# Altium schematic symbol library KeyBored_PCB_ThomasLajoie_2025.SCHLIB: 6 symbols
Pins are listed as number, name and electrical type; pins without a type are passive.

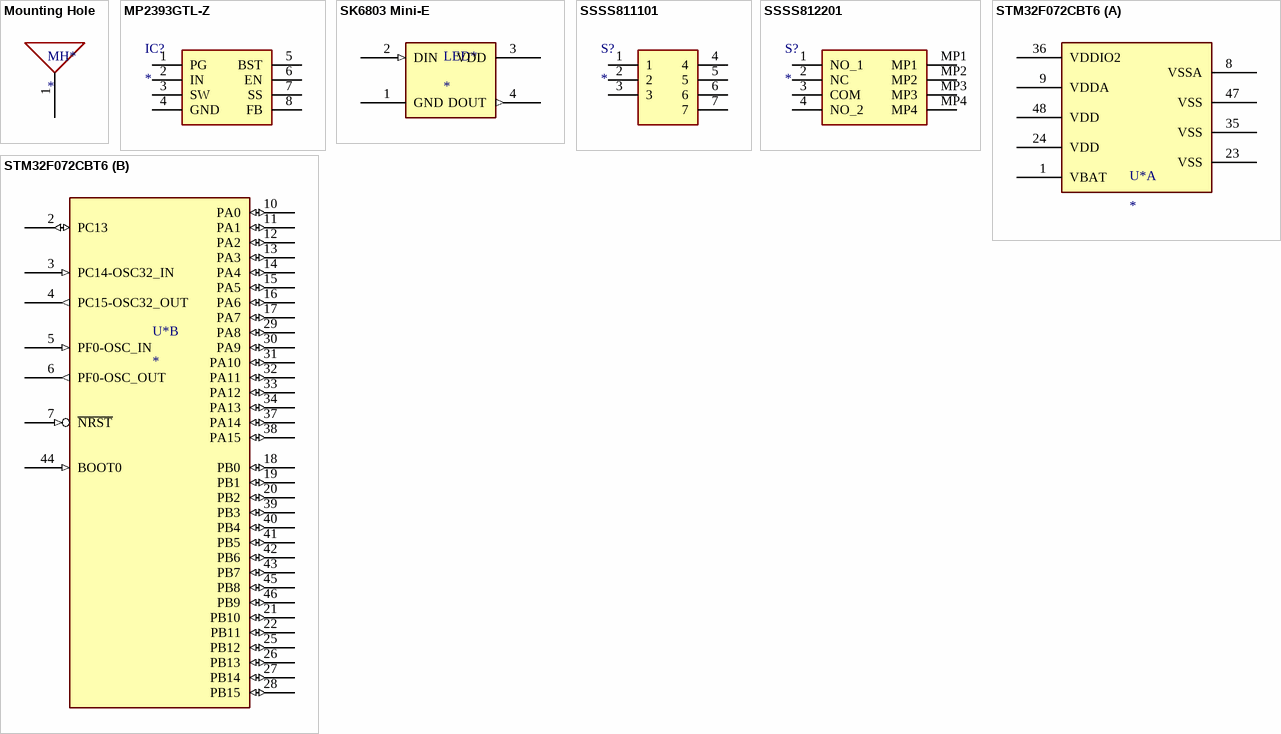
[diagram p0: symbols Mounting Hole to STM32F072CBT6]

## Mounting Hole
designator MH*
pins: 1 (power)

## MP2393GTL-Z
designator IC?
Integrated Circuit; Manufacturer_Name: Monolithic Power Systems (MPS); Manufacturer_Part_Number: MP2393GTL-Z; Height: 0.6mm; Mouser Part Number: 946-MP2393GTL-Z; Mouser Price/Stock: https://www.mouser.co.uk/ProductDetail/Monolithic-Power-Systems-MPS/MP2393GTL-Z?qs=YCa%2FAAYMW02wfKsqEy92eA%3D%3D
footprint SOTFL50P160X60-8N
pins: 1 PG, 2 IN, 3 SW, 4 GND, 5 BST, 6 EN, 7 SS, 8 FB

## SK6803 Mini-E
designator LED*
footprint SK6812_LED
pins: 1 GND (power), 2 DIN (in), 3 VDD (power), 4 DOUT (out)

## SSSS811101
designator S?
Switch; Manufacturer_Name: ALPS Electric; Manufacturer_Part_Number: SSSS811101; Height: 1.6mm; Mouser Part Number: 688-SSSS811101; Mouser Price/Stock: https://www.mouser.co.uk/ProductDetail/Alps-Alpine/SSSS811101?qs=m0BA540hBPe%2FELmLcs%2FcCA%3D%3D; Arrow Part Number: SSSS811101; Arrow Price/Stock: https://www.arrow.com/en/products/ssss811101/alps-electric
footprint SSSS811101
pins: 1, 2, 3, 4, 5, 6, 7

## SSSS812201
designator S?
Switch; Manufacturer_Name: ALPS Electric; Manufacturer_Part_Number: SSSS812201; Datasheet Link: https://www.mouser.com/datasheet/2/15/SSSS8-1370998.pdf; Height: 1.4mm; Mouser Part Number: 688-SSSS812201; Mouser Price/Stock: https://www.mouser.co.uk/ProductDetail/Alps-Alpine/SSSS812201?qs=4QwOlnKYOEu3rPQUm%2FWUjw%3D%3D
footprint SSSS812201
pins: 1 NO_1, 2 NC, 3 COM, 4 NO_2, MP1, MP2, MP3, MP4

## STM32F072CBT6
designator U*
footprint QFP50P900X900X160-48N
part A pins: 1 VBAT (power), 8 VSSA (power), 9 VDDA (power), 23 VSS (power), 24 VDD (power), 35 VSS (power), 36 VDDIO2 (power), 47 VSS (power), 48 VDD (power)
part B pins: 2 PC13 (io), 3 PC14-OSC32_IN (in), 4 PC15-OSC32_OUT (out), 5 PF0-OSC_IN (in), 6 PF0-OSC_OUT (out), 7 ~{NRST} (in), 10 PA0 (io), 11 PA1 (io), 12 PA2 (io), 13 PA3 (io), 14 PA4 (io), 15 PA5 (io), 16 PA6 (io), 17 PA7 (io), 18 PB0 (io), 19 PB1 (io), 20 PB2 (io), 21 PB10 (io), 22 PB11 (io), 25 PB12 (io), 26 PB13 (io), 27 PB14 (io), 28 PB15 (io), 29 PA8 (io), 30 PA9 (io), 31 PA10 (io), 32 PA11 (io), 33 PA12 (io), 34 PA13 (io), 37 PA14 (io), 38 PA15 (io), 39 PB3 (io), 40 PB4 (io), 41 PB5 (io), 42 PB6 (io), 43 PB7 (io), 44 BOOT0 (in), 45 PB8 (io), 46 PB9 (io)